# Altium integrated library RHD2216.IntLib: 1 symbol
Pins are listed as number, name and electrical type; pins without a type are passive.

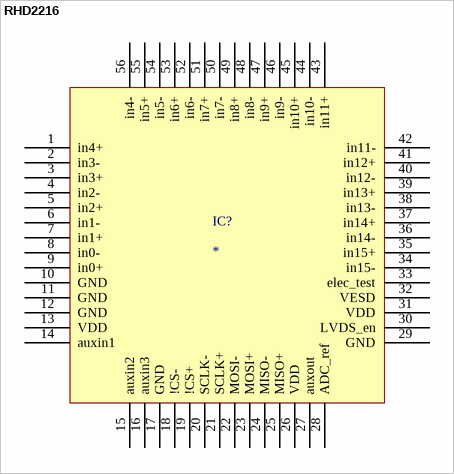
[diagram p0: symbol RHD2216]

## RHD2216
designator IC?
footprint RHD2216 (QFN, 56-Leads, Body 8.00x8.00mm, Pitch 0.50mm, Thermal Pad 6.10x6.10mm, IPC Medium Density)
pins: 1 in4+, 2 in3-, 3 in3+, 4 in2-, 5 in2+, 6 in1-, 7 in1+, 8 in0-, 9 in0+, 10 GND, 11 GND, 12 GND, 13 VDD, 14 auxin1, 15 auxin2, 16 auxin3, 17 GND, 18 !CS-, 19 !CS+, 20 SCLK-, 21 SCLK+, 22 MOSI-, 23 MOSI+, 24 MISO-, 25 MISO+, 26 VDD, 27 auxout, 28 ADC_ref, 29 GND, 30 LVDS_en, 31 VDD, 32 VESD, 33 elec_test, 34 in15-, 35 in15+, 36 in14-, 37 in14+, 38 in13-, 39 in13+, 40 in12-, 41 in12+, 42 in11-, 43 in11+, 44 in10-, 45 in10+, 46 in9-, 47 in9+, 48 in8-, 49 in8+, 50 in7-, 51 in7+, 52 in6-, 53 in6+, 54 in5-, 55 in5+, 56 in4-